# Altium schematic symbol library Y_TSX-3225.SchLib: 1 symbol
Pins are listed as number, name and electrical type; pins without a type are passive.

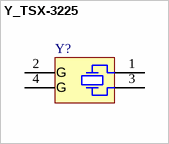
[diagram p0: symbol Y_TSX-3225]

## Y_TSX-3225
designator Y?
pins: 1, 2 GND (power), 3, 4 GND (power)
text: G